# Altium footprint library 01020071Z-FUSE-CLIP.PcbLib: 1 footprints
Each footprint in its own frame and in the unit in brackets; x right, y up, seen from the top. Pads: shape width x height; smd on the part's side, far side on the other; paste and mask are expansions set on the pad; w line width, h text height; cw(c..) or ccw(c..) is an arc to the next point about the centre after c.
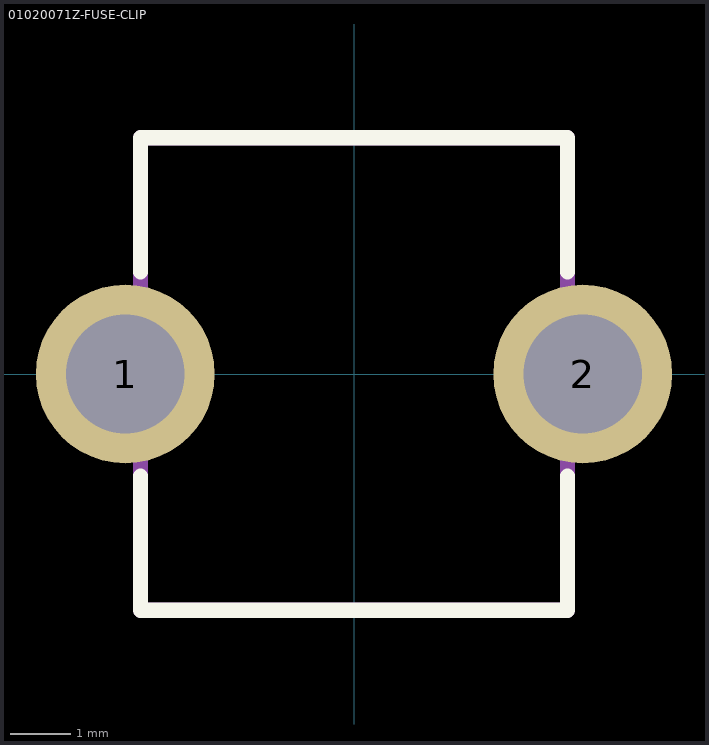
[diagram p0: the footprint, top view; thin cyan lines are the x and y axes]

## 01020071Z-FUSE-CLIP [mm]
pads (2):
  round 2.98 hole 1.98: 1(-3.81,0) 2(3.81,0)
Top Overlay:
  lines w0.254: -3.555,-1.7 -3.555,-3.935 3.555,-3.935 3.555,-1.7 ; -3.555,1.7 -3.555,3.935 3.555,3.935 3.555,1.7
Mechanical 15:
  lines w0.254: -3.555,-3.935 3.555,-3.935 3.555,3.935 -3.555,3.935 -3.555,-3.935